# EAGLE library part ADG1409YRUZ (library ADS1115DGS)
4 Ohm RON, 4-Channel, ±15 V/+12 V/±5 V iCMOS Multiplexers Source: 8x ADG1408_1409.pdf
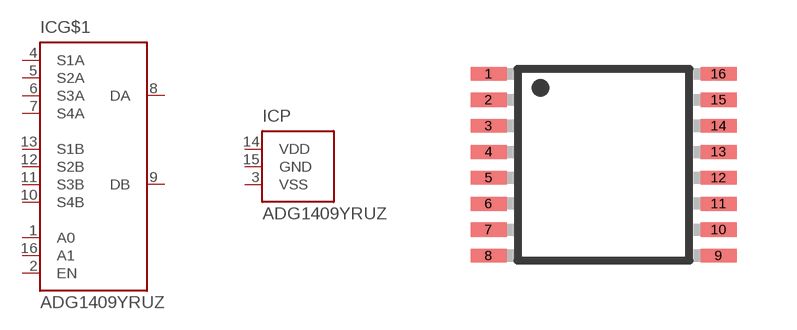
[diagram p62: symbol with the pads of TSSOP16; footprint TSSOP16]

Designator prefix IC; gates G$1=ADG1409 P=PWR-VSS_GND_VDD

## ADG1409YRUZ (MPN: ADG1409YRUZ; OC_FARNELL: 1438941; OC_NEWARK: 55M3850)  [TSSOP16]
1  G$1:A0  in
2  G$1:EN  in
3  P:VSS  pwr
4  G$1:S1A
5  G$1:S2A
6  G$1:S3A
7  G$1:S4A
8  G$1:DA
9  G$1:DB
10  G$1:S4B
11  G$1:S3B
12  G$1:S2B
13  G$1:S1B
14  P:VDD  pwr
15  P:GND  pwr
16  G$1:A1  in

## Footprint TSSOP16 (pad centres in mm)
16-Lead Thin Shrink Small Outline Package [TSSOP] (RU-16) Source: 8x ADG1408_1409.pdf
smd 0.9 x 0.35: 1 -2.875,2.275; 2 -2.875,1.625; 3 -2.875,0.975; 4 -2.875,0.325; 5 -2.875,-0.325; 6 -2.875,-0.975; 7 -2.875,-1.625; 8 -2.875,-2.275; 9 2.875,-2.275; 10 2.875,-1.625; 11 2.875,-0.975; 12 2.875,-0.325; 13 2.875,0.325; 14 2.875,0.975; 15 2.875,1.625; 16 2.875,2.275